# Altium footprint library Pilot.PcbLib: 39 footprints (part 3 of 3)
Each footprint in its own frame and in the unit in brackets; x right, y up, seen from the top. Pads: shape width x height; smd on the part's side, far side on the other; paste and mask are expansions set on the pad; w line width, h text height; cw(c..) or ccw(c..) is an arc to the next point about the centre after c.
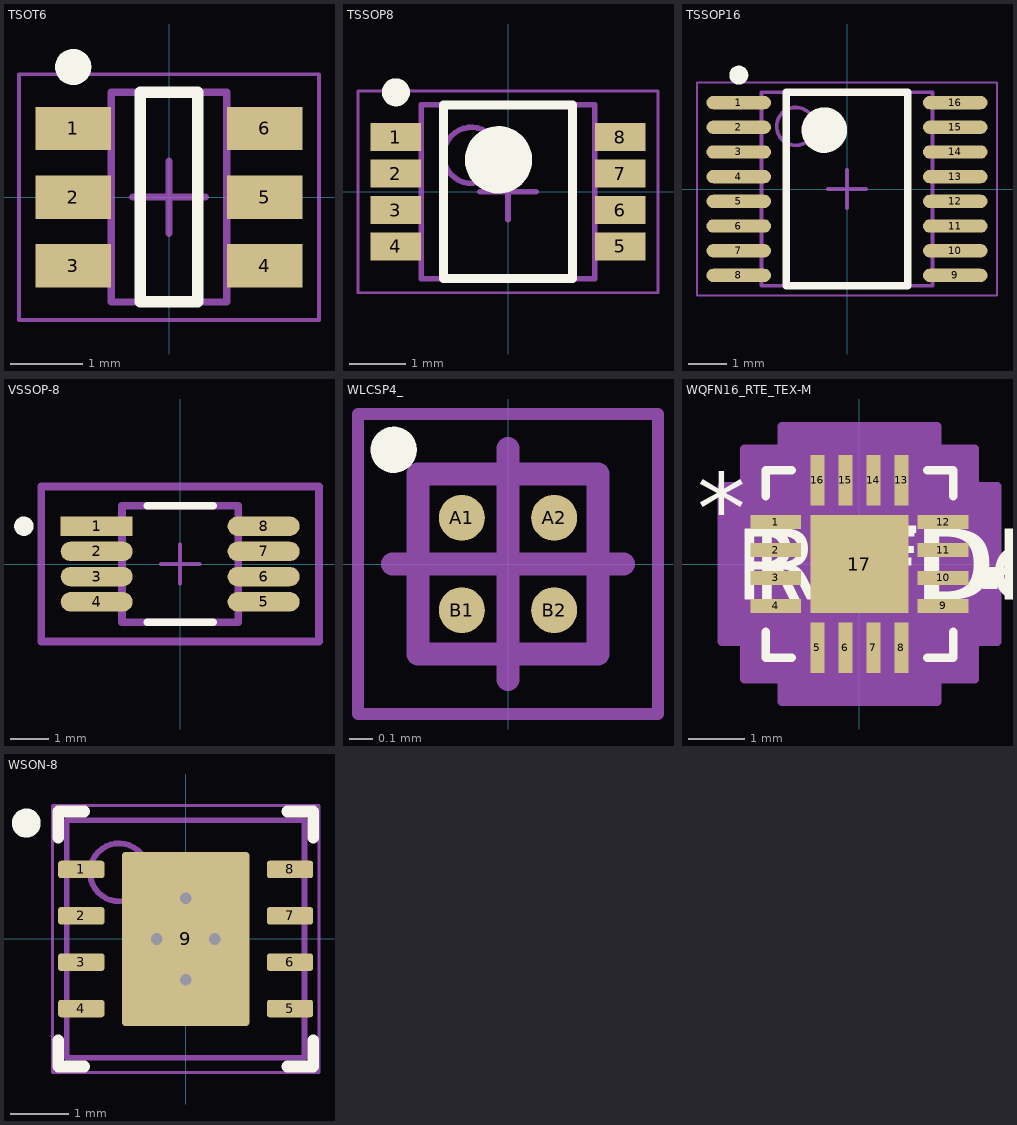
[diagram p2: the footprints below, top view; thin cyan lines are the x and y axes]

## TSOT6 [mm] "TSOP, 6-Leads, Body 2.90x1.60mm, Pitch 0.95mm, IPC Medium Density"
height 1
pads (6):
  rect 1.05x0.6 smd: 1(-1.325,0.95) 2(-1.325,0) 3(-1.325,-0.95) 4(1.325,-0.95) 5(1.325,0) 6(1.325,0.95)
Top Overlay:
  circle w0.25: c-1.325,1.8 r0.125
  lines w0.16: -0.4,-1.45 0.4,-1.45 0.4,1.45 -0.4,1.45 -0.4,-1.45
Top Courtyard:
  lines w0.05: -2.075,-1.7 2.075,-1.7 2.075,1.7 -2.075,1.7 -2.075,-1.7
  lines w0.1: -0.5,0 0.5,0 ; 0,-0.5 0,0.5
Top Assembly:
  lines w0.1: -0.8,-1.45 0.8,-1.45 0.8,1.45 -0.8,1.45 -0.8,-1.45
3D body "TSOT6.step": height 1, standoff 0, extent -1.4,-1.45 1.4,1.45

## TSSOP8 [mm] "TSOP, 8-Leads, Body 3.00x3.00mm, Pitch 0.65mm, IPC Medium Density"
height 1.1
pads (8):
  rect 0.9x0.5 smd: 1(-2,0.975) 2(-2,0.325) 3(-2,-0.325) 4(-2,-0.975) 5(2,-0.975) 6(2,-0.325) 7(2,0.325) 8(2,0.975)
Top Overlay:
  circle w0.6: c-0.17,0.57 r0.3
  circle w0.25: c-2,1.775 r0.125
  lines w0.16: -1.15,-1.55 1.15,-1.55 1.15,1.55 -1.15,1.55 -1.15,-1.55
Top Courtyard:
  lines w0.05: -2.675,-1.8 2.675,-1.8 2.675,1.8 -2.675,1.8 -2.675,-1.8
  lines w0.1: -0.5,0 0.5,0 ; 0,-0.5 0,0.5
Top Assembly:
  circle w0.1: c-0.65,0.65 r0.5
  lines w0.1: -1.55,-1.55 1.55,-1.55 1.55,1.55 -1.55,1.55 -1.55,-1.55
3D body "SOT505-2.step": height 0.92, standoff -0.01, extent -2.062,-1.5 1.962,1.5

## TSSOP16 [mm]
pads (16):
  oval 1.7x0.35 smd: 1(-2.85,2.275) 2(-2.85,1.625) 3(-2.85,0.975) 4(-2.85,0.325) 5(-2.85,-0.325) 6(-2.85,-0.975) 7(-2.85,-1.625) 8(-2.85,-2.275) 9(2.85,-2.275) 10(2.85,-1.625) 11(2.85,-0.975) 12(2.85,-0.325) 13(2.85,0.325) 14(2.85,0.975) 15(2.85,1.625) 16(2.85,2.275)
Top Overlay:
  circle w0.6: c-0.6,1.55 r0.3
  circle w0.25: c-2.85,3 r0.125
  lines w0.2: -1.6,-2.55 1.6,-2.55 1.6,2.55 -1.6,2.55 -1.6,-2.55
Mechanical 13:
  circle w0.1: c-1.35,1.65 r0.5
  lines w0.1: -2.25,-2.55 2.25,-2.55 2.25,2.55 -2.25,2.55 -2.25,-2.55
Mechanical 15:
  lines w0.05: -3.95,-2.8 3.95,-2.8 3.95,2.8 -3.95,2.8 -3.95,-2.8
  lines w0.1: -0.5,0 0.5,0 ; 0,-0.5 0,0.5
3D body: height 1.2, standoff 0.05, extent -2.25,-2.55 2.25,2.55

## VSSOP-8 [mm]
pads (8):
  rect 1.857x0.498 smd paste+0 mask+0: 1(-2.151,0.975)
  rrect100% 1.857x0.498 smd paste+0 mask+0: 2(-2.151,0.325) 3(-2.151,-0.325) 4(-2.151,-0.975) 5(2.151,-0.975) 6(2.151,-0.325) 7(2.151,0.325) 8(2.151,0.975)
Top Overlay:
  circle w0.25: c-4.029,0.975 r0.125
  lines w0.2: -0.848,-1.5 0.848,-1.5 ; -0.848,1.5 0.848,1.5
Top 3D Body:
  lines w0.2: -1.5,-1.5 1.5,-1.5 1.5,1.5 -1.5,1.5 -1.5,-1.5
Board:
  lines w0.2: -3.579,-2 3.579,-2 3.579,2 -3.579,2 -3.579,-2
Top Assembly:
  lines w0.2: -3.579,-2 3.579,-2 3.579,2 -3.579,2 -3.579,-2
  text ".Designator" at 0,0.187 h1
Top Component Center:
  lines w0.1: -0.5,0 0.5,0 ; 0,-0.5 0,0.5
3D body "IC_Texas_Instruments_TMP1075DGKT_eec.STEP": height 0.25, standoff 0, extent -3.579,-2 3.579,2

## WLCSP4_ [mm] "BGA, 4-Leads, Body 0.78x0.78mmx0.35mm, Pitch 0.40mm"
height 0.35
pads (4):
  round 0.2 smd: A1(-0.2,0.2) A2(0.2,0.2) B1(-0.2,-0.2) B2(0.2,-0.2)
Top Overlay:
  circle w0.1: c-0.495,0.495 r0.05
Mechanical 13:
  lines w0.1: -0.39,-0.39 -0.39,0.39 0.39,0.39 0.39,-0.39 -0.39,-0.39
Mechanical 15:
  lines w0.05: -0.65,-0.65 -0.65,0.65 0.65,0.65 0.65,-0.65 -0.65,-0.65
  lines w0.1: -0.5,0 0.5,0 ; 0,-0.5 0,0.5
3D body "WLCSP4_.step": height 0.35, standoff 0, extent -0.39,-0.39 0.39,0.39

## WQFN16_RTE_TEX-M [mil]
pads (17):
  rect 35.75x10.03 smd paste+0 mask+0: 1(-58.87,29.54) 2(-58.87,9.85) 3(-58.87,-9.85) 4(-58.87,-29.54) 9(58.87,-29.54) 10(58.87,-9.85) 11(58.87,9.85) 12(58.87,29.54)
  rect 10.03x35.75 smd paste+0 mask+0: 5(-29.54,-58.87) 6(-9.85,-58.87) 7(9.85,-58.87) 8(29.54,-58.87) 13(29.54,58.87) 14(9.85,58.87) 15(-9.85,58.87) 16(-29.54,58.87)
  rect 69x69 smd paste+0 mask+0: 17(0,0)
Top Overlay:
  region: 86.75,-2.35 96.75,-2.35 96.75,-17.34 86.75,-17.34
  lines w6: -66,-47.65 -66,-66 -47.65,-66 ; -66,47.65 -66,66 -47.65,66 ; 47.65,-66 66,-66 66,-47.65 ; 47.65,66 66,66 66,47.65
  text "REFDES" at -87.5,-25 h50
  text "RefDes" at -75,-25 h50
  text "*" at -114.25,14.38 h50
Mechanical 13:
  lines w1: -61,11 -11,61 ; -61,-61 -61,61 61,61 61,-61 -61,-61 ; -61,-35.53 -61,-23.54 -61,-35.53 ; -61,-15.85 -61,-3.85 -61,-15.85 ; -61,3.85 -61,15.85 -61,3.85 ; -61,23.54 -61,35.53 -61,23.54 ; -35.53,-61 -23.54,-61 -35.53,-61 ; -35.53,61 -23.54,61 -35.53,61 ; -15.85,-61 -3.85,-61 -15.85,-61 ; -15.85,61 -3.85,61 -15.85,61 ; 3.85,-61 15.85,-61 3.85,-61 ; 3.85,61 15.85,61 3.85,61 ; 23.54,-61 35.53,-61 23.54,-61 ; 23.54,61 35.53,61 23.54,61 ; 61,-35.53 61,-23.54 61,-35.53 ; 61,-15.85 61,-3.85 61,-15.85 ; 61,3.85 61,15.85 61,3.85 ; 61,23.54 61,35.53 61,23.54
  text "RefDes2" at -87.5,-25 h50
  text "*" at -53.5,14.38 h50
Mechanical 15:
  region: -54.55,-81 -81,-81 -81,-54.55 -96.75,-54.55 -96.75,54.55 -81,54.55 -81,81 -54.55,81 -54.55,96.75 54.55,96.75 54.55,81 81,81 81,54.55 96.75,54.55 96.75,-54.55 81,-54.55 81,-81 54.55,-81 54.55,-96.75 -54.55,-96.75
  lines w6: -96.75,-54.55 -96.75,54.55 -81,54.55 -81,81 -54.55,81 -54.55,96.75 54.55,96.75 54.55,81 81,81 81,54.55 96.75,54.55 96.75,-54.55 81,-54.55 81,-81 54.55,-81 54.55,-96.75 -54.55,-96.75 -54.55,-81 -81,-81 -81,-54.55 -96.75,-54.55
3D body "WQFN16_RTE_TEX.step": height 32.09, standoff 0, extent -60.98,-60.98 60.98,60.98

## WSON-8 [mm]
pads (9):
  rrect33% 0.8x0.3 smd paste-0.15 mask+0.051: 1(-1.8,1.2) 2(-1.8,0.4) 3(-1.8,-0.4) 4(-1.8,-1.2) 5(1.8,-1.2) 6(1.8,-0.4) 7(1.8,0.4) 8(1.8,1.2)
  rrect5% 2.2x3 smd paste-1.5 mask+0.051: 9(0,0)
via -0.5,0 diameter 0.5 hole 0.2
via 0.5,0 diameter 0.5 hole 0.2
via 0,0.7 diameter 0.5 hole 0.2
via 0,-0.7 diameter 0.5 hole 0.2
Top Overlay:
  circle w0.25: c-2.75,2 r0.125
  lines w0.2: -2.2,-1.75 -2.2,-2.2 -1.75,-2.2 ; -2.2,1.75 -2.2,2.2 -1.75,2.2 ; 1.75,-2.2 2.2,-2.2 2.2,-1.75 ; 1.75,2.2 2.2,2.2 2.2,1.75
Top Paste:
  region: 1,1.4 0.15,1.4 0.15,0.15 1,0.15
  rectangle: -1,0.15 -0.15,1.4
  rectangle: -1,-1.4 -0.15,-0.15
  region: 1,-0.15 0.15,-0.15 0.15,-1.4 1,-1.4
  region: 1.5,1.35 1.5,1.05 2,1.05 2,1.35
  region: 1.5,0.55 1.5,0.25 2,0.25 2,0.55
  region: 1.5,-0.25 1.5,-0.55 2,-0.55 2,-0.25
  region: 1.5,-1.05 1.5,-1.35 2,-1.35 2,-1.05
  region: -2,-1.05 -2,-1.35 -1.5,-1.35 -1.5,-1.05
  region: -2,-0.25 -2,-0.55 -1.5,-0.55 -1.5,-0.25
  region: -2,0.55 -2,0.25 -1.5,0.25 -1.5,0.55
  region: -2,1.35 -2,1.05 -1.5,1.05 -1.5,1.35
Mechanical 1:
  text ".Designator" at -1.524,-0.762 h0.8
Mechanical 13:
  circle w0.1: c-1.15,1.15 r0.5
  lines w0.1: -2.05,-2.05 2.05,-2.05 2.05,2.05 -2.05,2.05 -2.05,-2.05
Mechanical 15:
  lines w0.05: -2.3,-2.3 -2.3,2.3 2.3,2.3 2.3,-2.3 -2.3,-2.3
  lines w0.1: -0.5,0 0.5,0 ; 0,-0.5 0,0.5
3D body: height 0.8, standoff 0, extent -2.05,-2.05 2.05,2.05